# EAGLE library part PMOD_JE (library ov7670)
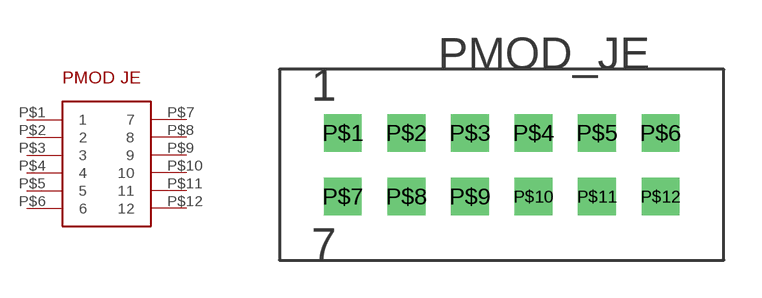
[diagram p1: symbol with the pads of PMOD_JE; footprint PMOD_JE]

Designator prefix -

## PMOD_JE  [PMOD_JE]
P$1  1
P$2  2
P$3  3
P$4  4
P$5  5
P$6  6
P$7  7
P$8  8
P$9  9
P$10  10
P$11  11
P$12  12

## Footprint PMOD_JE (pad centres in mm)
drill 1 square: P$1 -6.35,2.54; P$2 -3.81,2.54; P$3 -1.27,2.54; P$4 1.27,2.54; P$5 3.81,2.54; P$6 6.35,2.54; P$7 -6.35,0; P$8 -3.81,0; P$9 -1.27,0; P$10 1.27,0; P$11 3.81,0; P$12 6.35,0